# Altium footprint library PcbLib1.PcbLib: 19 footprints (part 2 of 2)
Each footprint in its own frame and in the unit in brackets; x right, y up, seen from the top. Pads: shape width x height; smd on the part's side, far side on the other; paste and mask are expansions set on the pad; w line width, h text height; cw(c..) or ccw(c..) is an arc to the next point about the centre after c.
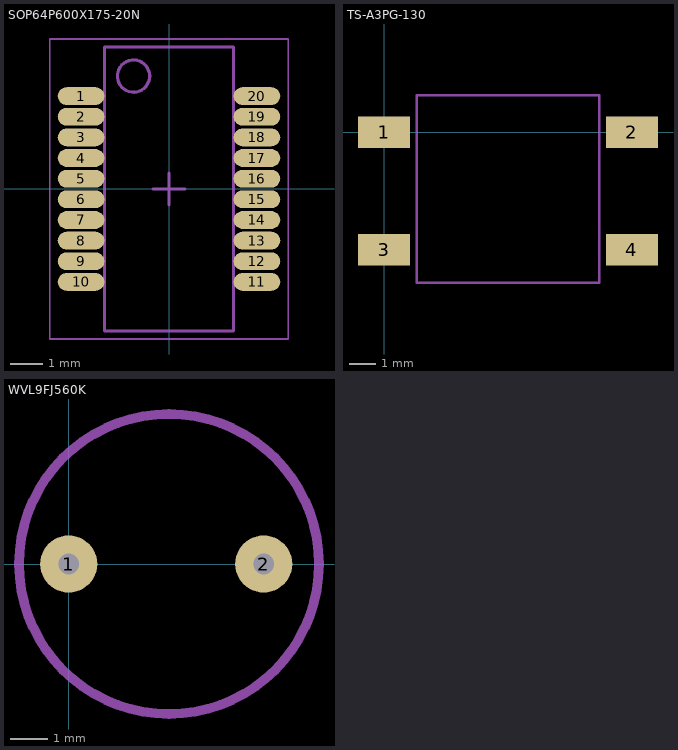
[diagram p1: the footprints below, top view; thin cyan lines are the x and y axes]

## SOP64P600X175-20N [mm] "SOP, 20-Leads, Body 8,66x3,91mm, Pitch 0,64mm, IPC Medium Density"
height 1.75
pads (20):
  oval 1.45x0.55 smd: 1(-2.725,2.88) 2(-2.725,2.24) 3(-2.725,1.6) 4(-2.725,0.96) 5(-2.725,0.32) 6(-2.725,-0.32) 7(-2.725,-0.96) 8(-2.725,-1.6) 9(-2.725,-2.24) 10(-2.725,-2.88) 11(2.725,-2.88) 12(2.725,-2.24) 13(2.725,-1.6) 14(2.725,-0.96) 15(2.725,-0.32) 16(2.725,0.32) 17(2.725,0.96) 18(2.725,1.6) 19(2.725,2.24) 20(2.725,2.88)
Top Assembly:
  circle w0.1: c-1.1,3.5 r0.5
  lines w0.1: -2,-4.4 -2,4.4 2,4.4 2,-4.4 -2,-4.4
Mechanical 15:
  lines w0.05: -3.7,-4.65 -3.7,4.65 3.7,4.65 3.7,-4.65 -3.7,-4.65
  lines w0.1: -0.5,0 0.5,0 ; 0,-0.5 0,0.5
3D body "SOP64P600X175-20N.step": height 1.75, standoff 0, extent -2.997,-4.4 2.997,4.4

## TS-A3PG-130 [mm]
pads (4):
  rect 2x1.2 smd: 1(0,0) 2(9.5,0) 3(0,-4.5) 4(9.5,-4.5)
Top Assembly:
  lines w0.1: 1.25,-5.775 1.25,1.425 1.55,1.425 8.25,1.425 8.25,-5.775 1.25,-5.775
3D body "KSC641GLFS.stp": height 7.65, standoff 0, extent -0.3,-5.4 9.7,0.9

## WVL9FJ560K [mil]
pads (2):
  round 60 hole 21.65: 1(0,0) 2(204.72,0)
Top Assembly:
  circle w10: c105.31,0 r157.48
3D body: height 393.7, standoff 0, extent -52.17,-157.36 262.8,157.35